# Altium footprint library Daxxn_Connectors.PcbLib: 65 footprints (part 5 of 5)
Each footprint in its own frame and in the unit in brackets; x right, y up, seen from the top. Pads: shape width x height; smd on the part's side, far side on the other; paste and mask are expansions set on the pad; w line width, h text height; cw(c..) or ccw(c..) is an arc to the next point about the centre after c.
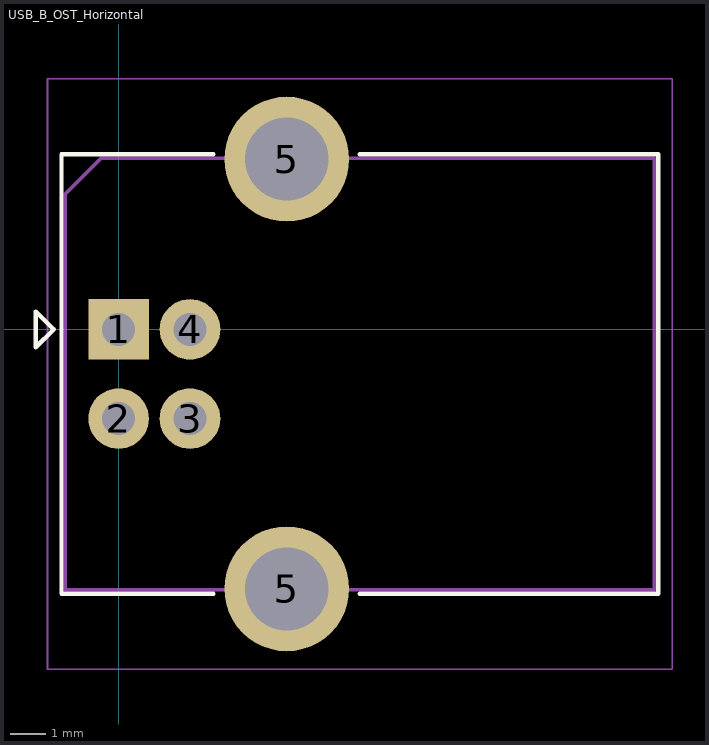
[diagram p4: the footprint, top view; thin cyan lines are the x and y axes]

## USB_B_OST_Horizontal [mm]
pads (6):
  rect 1.7x1.7 hole 0.92: 1(0,0)
  round 1.7 hole 0.92: 2(0,-2.5) 3(2,-2.5) 4(2,0)
  round 3.5 hole 2.33: 5(4.71,-7.27) 5(4.71,4.77)
F.SilkS:
  lines w0.12: 2.66,-7.41 -1.6,-7.41 -1.6,4.91 2.66,4.91 ; 6.76,-7.41 15.12,-7.41 15.12,4.91 6.76,4.91 ; -2.32,-0.5 -1.82,0 -2.32,0.5 -2.32,-0.5
F.CrtYd:
  lines w0.05: -1.99,-9.52 15.51,-9.52 15.51,7.02 -1.99,7.02 -1.99,-9.52
F.Fab:
  lines w0.1: -1.49,-7.3 15.01,-7.3 15.01,4.8 -0.49,4.8 -1.49,3.8 -1.49,-7.3
  text "'.Designator'" at 2.713,-2.09 h1